# Altium schematic symbol library Relay.SCHLIB: 3 symbols
Pins are listed as number, name and electrical type; pins without a type are passive.

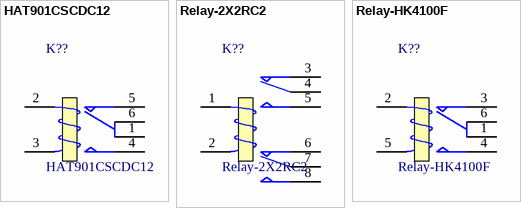
[diagram p0: symbols HAT901CSCDC12 to Relay-HK4100F]

## HAT901CSCDC12
designator K??
JRC-21F 5V 5 V Volt Power Relay; Published: 8-Jun-2000; LatestRevisionDate: 17-Jul-2002; LatestRevisionNote: Re-released for DXP Platform.; PackageReference: MODULE5B; Publisher: Altium Limited
footprint HAT901
pins: 1 COM2, 2 B1, 3 B2, 4 NO, 5 NC, 6 COM

## Relay-2X2RC2
designator K??
SPDT Relay; Published: 8-Jun-2000; LatestRevisionDate: 17-Jul-2002; LatestRevisionNote: Re-released for DXP Platform.; PackageReference: MODULE5B; Publisher: Altium Limited
footprint RelayJX2
pins: 1 T1, 2 T2, 3 NC, 4 COM, 5 NO, 6 NC, 7 COM, 8 NO

## Relay-HK4100F
designator K??
JRC-21F 5V 5 V Volt Power Relay; Published: 8-Jun-2000; LatestRevisionDate: 17-Jul-2002; LatestRevisionNote: Re-released for DXP Platform.; PackageReference: MODULE5B; Publisher: Altium Limited
footprint HK4100
pins: 1 COM2, 2 B1, 3 NC, 4 NO, 5 B2, 6 COM